# Altium footprint library SparkFun-Buzzard.PCBLIB: 53 footprints (part 2 of 4)
Each footprint in its own frame and in the unit in brackets; x right, y up, seen from the top. Pads: shape width x height; smd on the part's side, far side on the other; paste and mask are expansions set on the pad; w line width, h text height; cw(c..) or ccw(c..) is an arc to the next point about the centre after c.
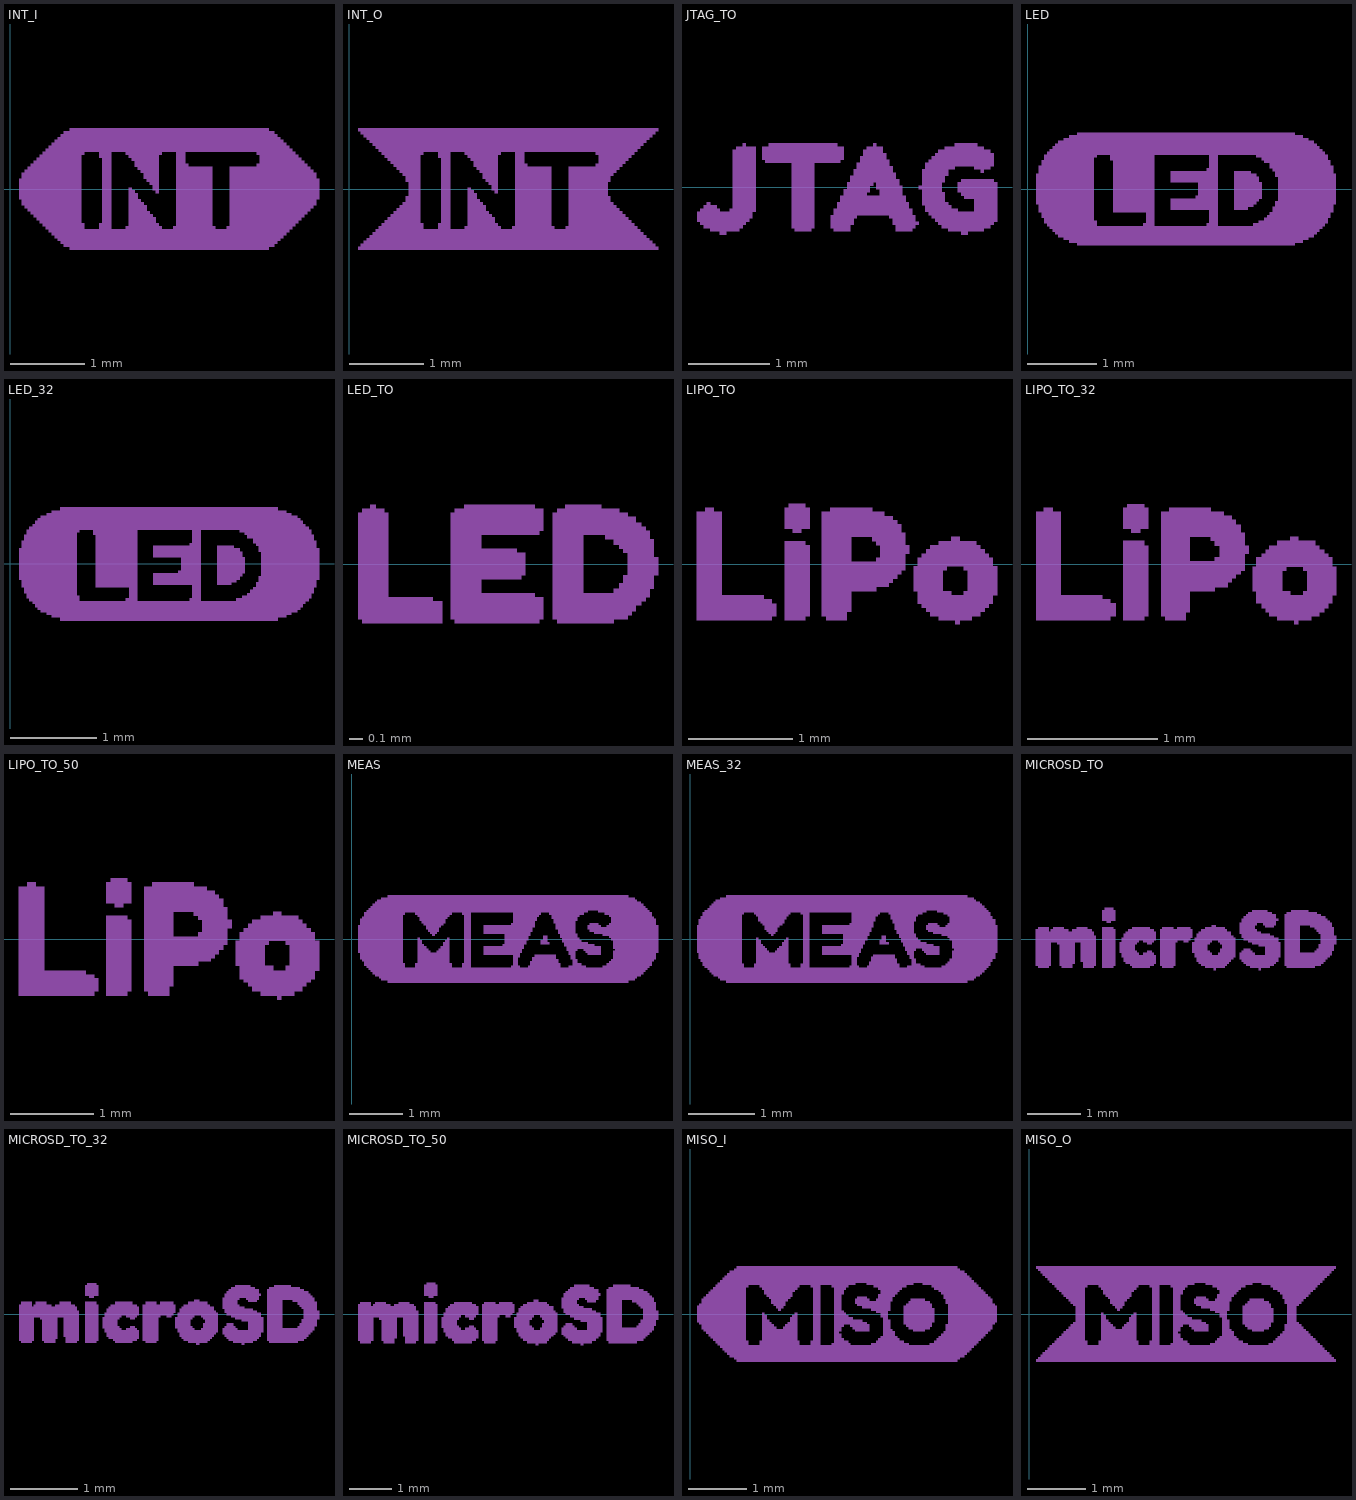
[diagram p1: the footprints below, top view; thin cyan lines are the x and y axes]

## INT_I [mm]
tPlace:
  drawing of 147 lines, arcs and shapes, not listed

## INT_O [mm]
tPlace:
  drawing of 147 lines, arcs and shapes, not listed

## JTAG_TO [mm]
tPlace:
  drawing of 134 lines, arcs and shapes, not listed

## LED [mm]
tPlace:
  drawing of 133 lines, arcs and shapes, not listed

## LED_32 [mm]
tPlace:
  drawing of 133 lines, arcs and shapes, not listed

## LED_TO [mm]
tPlace:
  drawing of 94 lines, arcs and shapes, not listed

## LIPO_TO [mm]
tPlace:
  drawing of 114 lines, arcs and shapes, not listed

## LIPO_TO_32 [mm]
tPlace:
  drawing of 114 lines, arcs and shapes, not listed

## LIPO_TO_50 [mm]
tPlace:
  drawing of 114 lines, arcs and shapes, not listed

## MEAS [mm]
tPlace:
  drawing of 193 lines, arcs and shapes, not listed

## MEAS_32 [mm]
tPlace:
  drawing of 193 lines, arcs and shapes, not listed

## MICROSD_TO [mm]
tPlace:
  drawing of 218 lines, arcs and shapes, not listed

## MICROSD_TO_32 [mm]
tPlace:
  drawing of 218 lines, arcs and shapes, not listed

## MICROSD_TO_50 [mm]
tPlace:
  drawing of 218 lines, arcs and shapes, not listed

## MISO_I [mm]
tPlace:
  drawing of 198 lines, arcs and shapes, not listed

## MISO_O [mm]
tPlace:
  drawing of 198 lines, arcs and shapes, not listed